# EAGLE library part PCA9512ADP (library gwu_mpnl_ucat_v10)
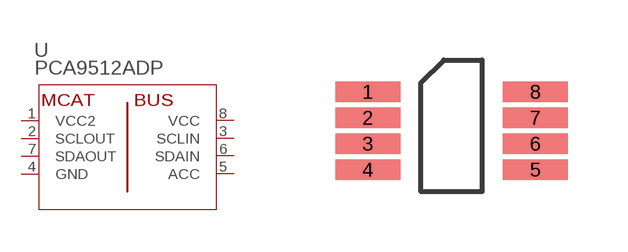
[diagram p15: symbol with the pads of SOT505-1; footprint SOT505-1]

Designator prefix U

## PCA9512ADP (MANUFACTURER_PART_NUMBER: PCA9512ADP; VENDOR: NXP)  [SOT505-1]
1  VCC2  pas
2  SCLOUT  pas
3  SCLIN  pas
4  GND  pas
5  ACC  pas
6  SDAIN  pas
7  SDAOUT  pas
8  VCC  pas

## Footprint SOT505-1 (pad centres in mm)
smd 1.626 x 0.508: 1 -2.095,0.975; 2 -2.095,0.325; 3 -2.095,-0.325; 4 -2.095,-0.975; 5 2.095,-0.975; 6 2.095,-0.325; 7 2.095,0.325; 8 2.095,0.975